# EAGLE library part DS26LV32ATM/NOPB (library takeyama)
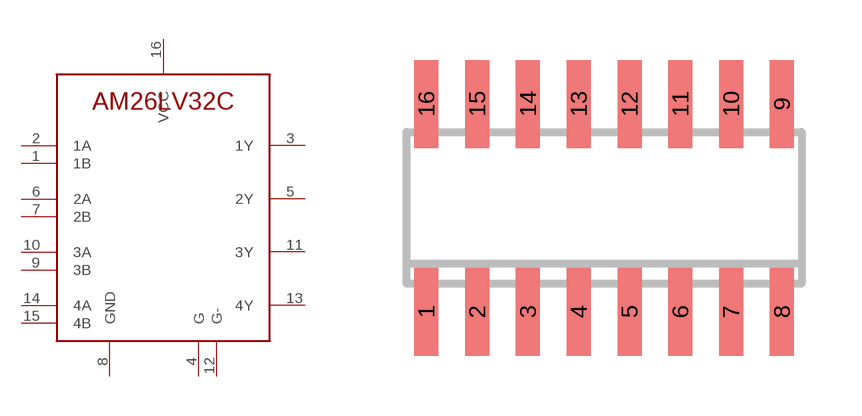
[diagram p11: symbol with the pads of SO16; footprint SO16]

Designator prefix -

## DS26LV32ATM/NOPB  [SO16]
1  1B
2  1A
3  1Y
4  G
5  2Y
6  2A
7  2B
8  GND  pwr
9  3B
10  3A
11  3Y
12  G-
13  4Y
14  4A
15  4B
16  VCC  pwr

## Footprint SO16 (pad centres in mm)
SMALL OUTLINE INTEGRATED CIRCUIT body 3.9 mm/JEDEC MS-012AC
smd 0.6 x 2.2: 1 -4.445,-2.6; 2 -3.175,-2.6; 3 -1.905,-2.6; 4 -0.635,-2.6; 5 0.635,-2.6; 6 1.905,-2.6; 7 3.175,-2.6; 8 4.445,-2.6; 9 4.445,2.6; 10 3.175,2.6; 11 1.905,2.6; 12 0.635,2.6; 13 -0.635,2.6; 14 -1.905,2.6; 15 -3.175,2.6; 16 -4.445,2.6